# Altium footprint library MOLEX_43045-0619.PcbLib: 1 footprints
Each footprint in its own frame and in the unit in brackets; x right, y up, seen from the top. Pads: shape width x height; smd on the part's side, far side on the other; paste and mask are expansions set on the pad; w line width, h text height; cw(c..) or ccw(c..) is an arc to the next point about the centre after c.
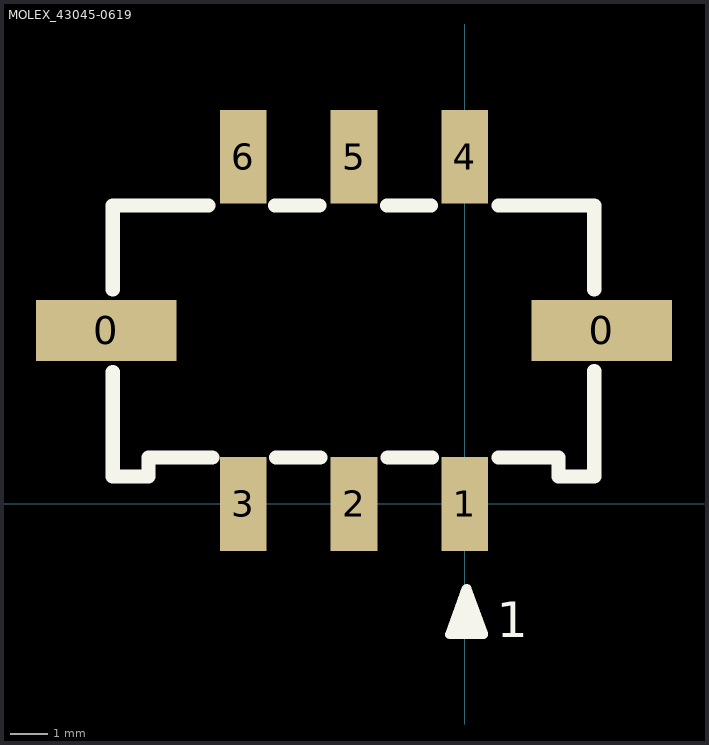
[diagram p0: the footprint, top view; thin cyan lines are the x and y axes]

## MOLEX_43045-0619 [mil]
pads (8):
  rect 150x65 smd: 0(-382,185) 0(146,185)
  rect 50x100 smd: 1(0,0) 2(-118,0) 3(-236,0) 4(0,370) 5(-118,370) 6(-236,370)
Top Overlay:
  rectangle: -14,-138 18,-127
  rectangle: -7,-143 11,-103
  lines w10: 19,-139 -16,-139 2,-90 20,-139
  lines w15: -375,140.5 -375,29.5 -337,29.5 -337,49.5 -269,49.5 ; -375,228.5 -375,318 -273,318 ; -202,318 -155,318 ; -201,49.5 -154,49.5 ; -83,318 -36,318 ; -82,49.5 -35,49.5 ; 36,49.5 100,49.5 100,29.5 138,29.5 138,141.5 ; 36,318 138,318 138,228.5
  text "1" at 34,-142 h38
3D body: height 389.88, standoff -2.24, extent -444.76,-37 210.76,403.95